# EAGLE library part ESP-07 (library esp8266_danielsr)
ESP8266 ESP07
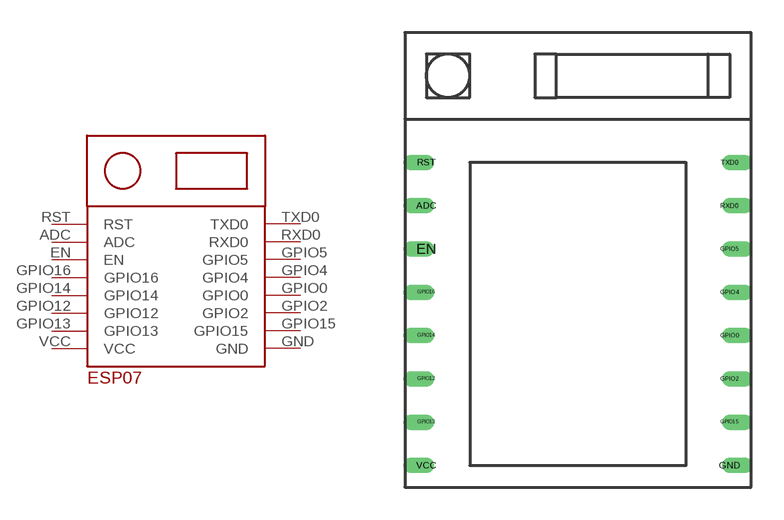
[diagram p0: symbol with the pads of ESP-07_MM; footprint ESP-07_MM]

Designator prefix -

## ESP-07ESP07  [ESP-07_MM]
ADC  ADC
EN  EN
GND  GND
GPIO0  GPIO0
GPIO2  GPIO2
GPIO4  GPIO4
GPIO5  GPIO5
GPIO12  GPIO12
GPIO13  GPIO13
GPIO14  GPIO14
GPIO15  GPIO15
GPIO16  GPIO16
RST  RST
RXD0  RXD0
TXD0  TXD0
VCC  VCC

## Footprint ESP-07_MM (pad centres in mm)
ESP-07 in mm
drill 0.2 offset: ADC -7,3; EN -7,1; GND 7,-9; GPIO0 7,-3; GPIO2 7,-5; GPIO4 7,-1; GPIO5 7,1; GPIO12 -7,-5; GPIO13 -7,-7; GPIO14 -7,-3; GPIO15 7,-7; GPIO16 -7,-1; RST -7,5; RXD0 7,3; TXD0 7,5; VCC -7,-9